# Altium footprint library TPS63051RMWR.PcbLib: 1 footprints
Each footprint in its own frame and in the unit in brackets; x right, y up, seen from the top. Pads: shape width x height; smd on the part's side, far side on the other; paste and mask are expansions set on the pad; w line width, h text height; cw(c..) or ccw(c..) is an arc to the next point about the centre after c.
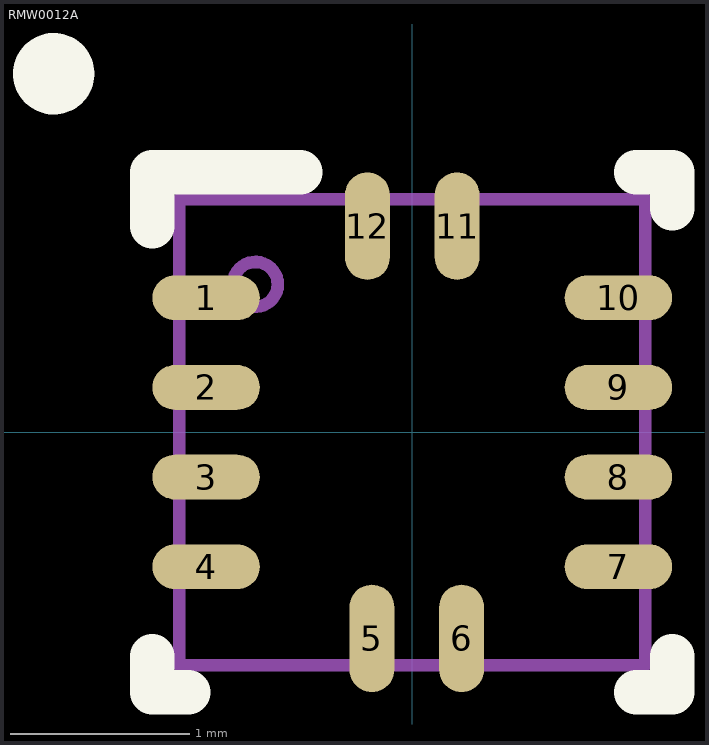
[diagram p0: the footprint, top view; thin cyan lines are the x and y axes]

## RMW0012A [mm]
pads (12):
  oval 0.6x0.25 smd paste+0 mask+0.051: 1(-1.15,0.75) 2(-1.15,0.25) 3(-1.15,-0.25) 4(-1.15,-0.75) 7(1.15,-0.75) 8(1.15,-0.25) 9(1.15,0.25) 10(1.15,0.75)
  oval 0.25x0.6 smd paste+0 mask+0.051: 5(-0.225,-1.15) 6(0.275,-1.15) 11(0.25,1.15) 12(-0.25,1.15)
Top Overlay:
  circle w0.254: c-2,2 r0.1
  lines w0.25: -1.45,-1.25 -1.45,-1.45 -1.25,-1.45 ; -1.45,1.15 -1.45,1.45 -0.625,1.45 ; 1.25,-1.45 1.45,-1.45 1.45,-1.25 ; 1.25,1.45 1.45,1.45 1.45,1.25
Mechanical 13:
  circle w0.07: c-0.875,0.825 r0.125
  lines w0.07: -1.3,-1.3 1.3,-1.3 1.3,1.3 -1.3,1.3 -1.3,-1.3